# Altium footprint library SM14B-GHS-TB(LF)(SN).PcbLib: 1 footprints
Each footprint in its own frame and in the unit in brackets; x right, y up, seen from the top. Pads: shape width x height; smd on the part's side, far side on the other; paste and mask are expansions set on the pad; w line width, h text height; cw(c..) or ccw(c..) is an arc to the next point about the centre after c.
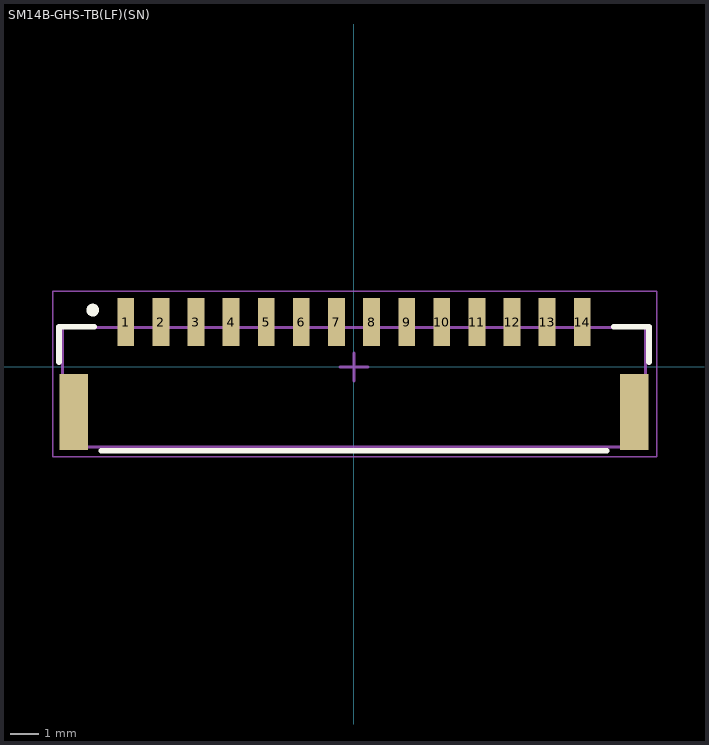
[diagram p0: the footprint, top view; thin cyan lines are the x and y axes]

## SM14B-GHS-TB(LF)(SN) [mm]
pads (16):
  rect 0.6x1.7 smd: 1(-8.125,1.6) 2(-6.875,1.6) 3(-5.625,1.6) 4(-4.375,1.6) 5(-3.125,1.6) 6(-1.875,1.6) 7(-0.625,1.6) 8(0.625,1.6) 9(1.875,1.6) 10(3.125,1.6) 11(4.375,1.6) 12(5.625,1.6) 13(6.875,1.6) 14(8.125,1.6)
  rect 1x2.7 smd: ""(-9.975,-1.6) ""(9.975,-1.6)
Top Overlay:
  circle w0.254: c-9.3,2.025 r0.1
  lines w0.2: -10.5,0.175 -10.5,1.425 -9.25,1.425 ; -9,-2.975 9,-2.975 ; 9.25,1.425 10.5,1.425 10.5,0.175
Mechanical 1:
  lines w0.1: -10.375,-2.85 -10.375,1.4 10.375,1.4 10.375,-2.85 -10.375,-2.85
  text ".Designator" at -3.374,-1.458 h0.65
Mechanical 2:
  lines w0.05: -10.725,-3.2 10.775,-3.2 10.775,2.7 -10.725,2.7 -10.725,-3.2
  lines w0.1: -0.5,0 0.5,0 ; 0,-0.5 0,0.5
3D body "SM14B-GHS-TB.STEP": height 4.35, standoff 0, extent -10.375,-2.85 10.375,2